# Altium schematic symbol library TPSM82866AA0SRDJR.SchLib: 2 symbols
Pins are listed as number, name and electrical type; pins without a type are passive.

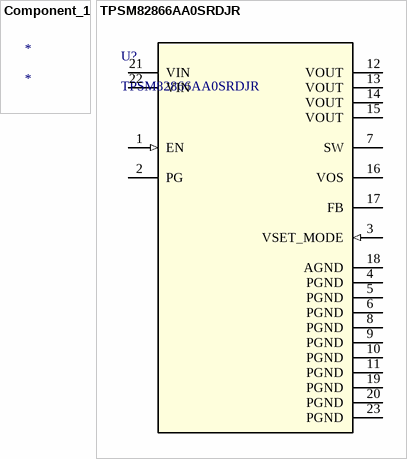
[diagram p0: symbols Component_1 to TPSM82866AA0SRDJR]

## Component_1
designator *

## TPSM82866AA0SRDJR
designator U?
No Description Available; Mfr_Name: Texas Instruments; Type: DEV; RefDes: RefDes; Copyright: Copyright (C) 2023 Ultra Librarian. All rights reserved.; Manufacturer_Part_Number: TPSM82866AA0SRDJR
footprint RDJ0023A-MFG
pins: 1 EN (in), 2 PG (oc), 3 VSET_MODE (in), 4 PGND (power), 5 PGND (power), 6 PGND (power), 7 SW, 8 PGND (power), 9 PGND (power), 10 PGND (power), 11 PGND (power), 12 VOUT, 13 VOUT, 14 VOUT, 15 VOUT, 16 VOS, 17 FB, 18 AGND (power), 19 PGND (power), 20 PGND (power), 21 VIN (power), 22 VIN (power), 23 PGND (power)